# EAGLE library part LAN9252_ML (library LAN9252_ML)
Ethernet ICs Source: Datasheet <https://componentsearchengine.com/Datasheets/1/LAN9252_ML.pdf>
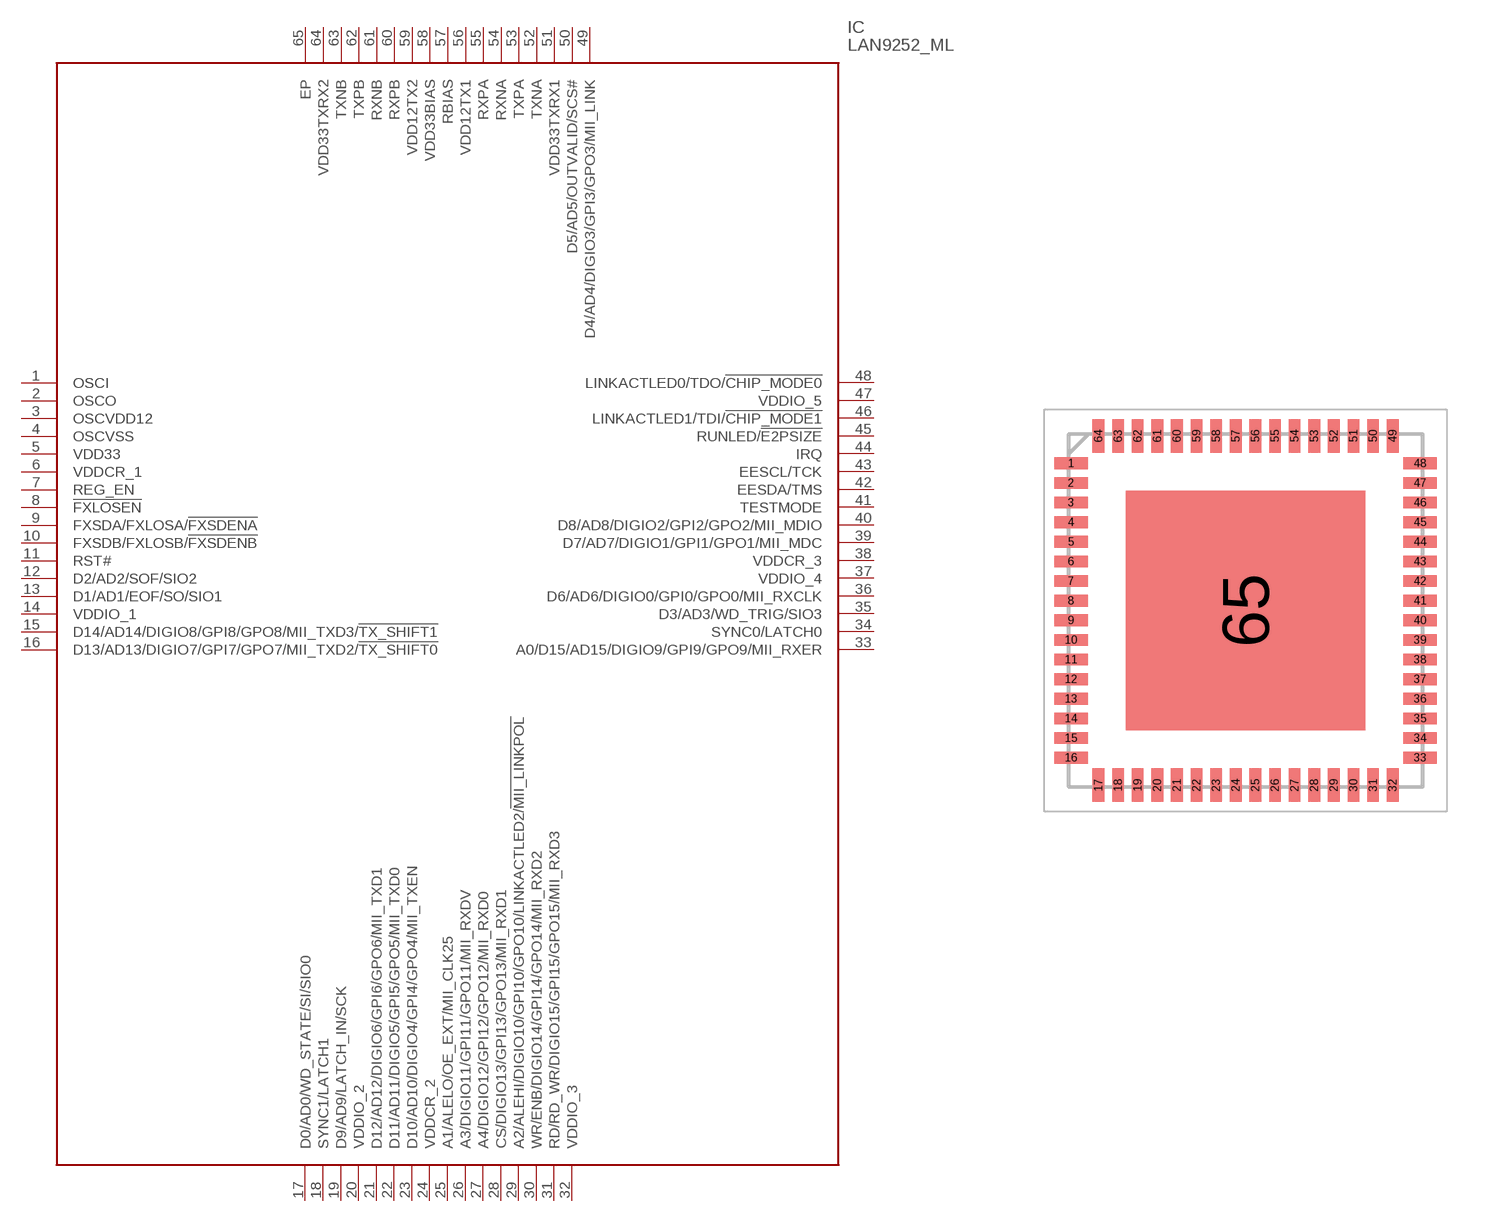
[diagram p0: symbol with the pads of QFN50P900X900X100-65N; footprint QFN50P900X900X100-65N]

Designator prefix IC

## LAN9252_ML (Description: Ethernet ICs; Height: 1mm; Manufacturer_Name: Microchip; Manufacturer_Part_Number: LAN9252/ML; Mouser_Part_Number: 579-LAN9252/ML; Mouser_Price-Stock: https://www.mouser.co.uk/ProductDetail/Microchip-Technology/LAN9252-ML?qs=%252ByRm1sYhYIl68yMSuZ2bQg%3D%3D)  [QFN50P900X900X100-65N]
1  OSCI
2  OSCO
3  OSCVDD12
4  OSCVSS
5  VDD33
6  VDDCR_1
7  REG_EN
8  !FXLOSEN
9  FXSDA/FXLOSA/!FXSDENA
10  FXSDB/FXLOSB/!FXSDENB
11  RST#
12  D2/AD2/SOF/SIO2
13  D1/AD1/EOF/SO/SIO1
14  VDDIO_1
15  D14/AD14/DIGIO8/GPI8/GPO8/MII_TXD3/!TX_SHIFT1
16  D13/AD13/DIGIO7/GPI7/GPO7/MII_TXD2/!TX_SHIFT0
17  D0/AD0/WD_STATE/SI/SIO0
18  SYNC1/LATCH1
19  D9/AD9/LATCH_IN/SCK
20  VDDIO_2
21  D12/AD12/DIGIO6/GPI6/GPO6/MII_TXD1
22  D11/AD11/DIGIO5/GPI5/GPO5/MII_TXD0
23  D10/AD10/DIGIO4/GPI4/GPO4/MII_TXEN
24  VDDCR_2
25  A1/ALELO/OE_EXT/MII_CLK25
26  A3/DIGIO11/GPI11/GPO11/MII_RXDV
27  A4/DIGIO12/GPI12/GPO12/MII_RXD0
28  CS/DIGIO13/GPI13/GPO13/MII_RXD1
29  A2/ALEHI/DIGIO10/GPI10/GPO10/LINKACTLED2/!MII_LINKPOL
30  WR/ENB/DIGIO14/GPI14/GPO14/MII_RXD2
31  RD/RD_WR/DIGIO15/GPI15/GPO15/MII_RXD3
32  VDDIO_3
33  A0/D15/AD15/DIGIO9/GPI9/GPO9/MII_RXER
34  SYNC0/LATCH0
35  D3/AD3/WD_TRIG/SIO3
36  D6/AD6/DIGIO0/GPI0/GPO0/MII_RXCLK
37  VDDIO_4
38  VDDCR_3
39  D7/AD7/DIGIO1/GPI1/GPO1/MII_MDC
40  D8/AD8/DIGIO2/GPI2/GPO2/MII_MDIO
41  TESTMODE
42  EESDA/TMS
43  EESCL/TCK
44  IRQ
45  RUNLED/!E2PSIZE
46  LINKACTLED1/TDI/!CHIP_MODE1
47  VDDIO_5
48  LINKACTLED0/TDO/!CHIP_MODE0
49  D4/AD4/DIGIO3/GPI3/GPO3/MII_LINK
50  D5/AD5/OUTVALID/SCS#
51  VDD33TXRX1
52  TXNA
53  TXPA
54  RXNA
55  RXPA
56  VDD12TX1
57  RBIAS
58  VDD33BIAS
59  VDD12TX2
60  RXPB
61  RXNB
62  TXPB
63  TXNB
64  VDD33TXRX2
65  EP

## Footprint QFN50P900X900X100-65N (pad centres in mm)
64-QFN_1
smd 0.85 x 0.3: 1 -4.45,3.75; 2 -4.45,3.25; 3 -4.45,2.75; 4 -4.45,2.25; 5 -4.45,1.75; 6 -4.45,1.25; 7 -4.45,0.75; 8 -4.45,0.25; 9 -4.45,-0.25; 10 -4.45,-0.75; 11 -4.45,-1.25; 12 -4.45,-1.75; 13 -4.45,-2.25; 14 -4.45,-2.75; 15 -4.45,-3.25; 16 -4.45,-3.75; 33 4.45,-3.75; 34 4.45,-3.25; 35 4.45,-2.75; 36 4.45,-2.25; 37 4.45,-1.75; 38 4.45,-1.25; 39 4.45,-0.75; 40 4.45,-0.25; 41 4.45,0.25; 42 4.45,0.75; 43 4.45,1.25; 44 4.45,1.75; 45 4.45,2.25; 46 4.45,2.75; 47 4.45,3.25; 48 4.45,3.75
smd 0.3 x 0.85: 17 -3.75,-4.45; 18 -3.25,-4.45; 19 -2.75,-4.45; 20 -2.25,-4.45; 21 -1.75,-4.45; 22 -1.25,-4.45; 23 -0.75,-4.45; 24 -0.25,-4.45; 25 0.25,-4.45; 26 0.75,-4.45; 27 1.25,-4.45; 28 1.75,-4.45; 29 2.25,-4.45; 30 2.75,-4.45; 31 3.25,-4.45; 32 3.75,-4.45; 49 3.75,4.45; 50 3.25,4.45; 51 2.75,4.45; 52 2.25,4.45; 53 1.75,4.45; 54 1.25,4.45; 55 0.75,4.45; 56 0.25,4.45; 57 -0.25,4.45; 58 -0.75,4.45; 59 -1.25,4.45; 60 -1.75,4.45; 61 -2.25,4.45; 62 -2.75,4.45; 63 -3.25,4.45; 64 -3.75,4.45
smd 6.1 x 6.1: 65 0,0